# Altium footprint library SIP-4-GBJ.PcbLib: 1 footprints
Each footprint in its own frame and in the unit in brackets; x right, y up, seen from the top. Pads: shape width x height; smd on the part's side, far side on the other; paste and mask are expansions set on the pad; w line width, h text height; cw(c..) or ccw(c..) is an arc to the next point about the centre after c.
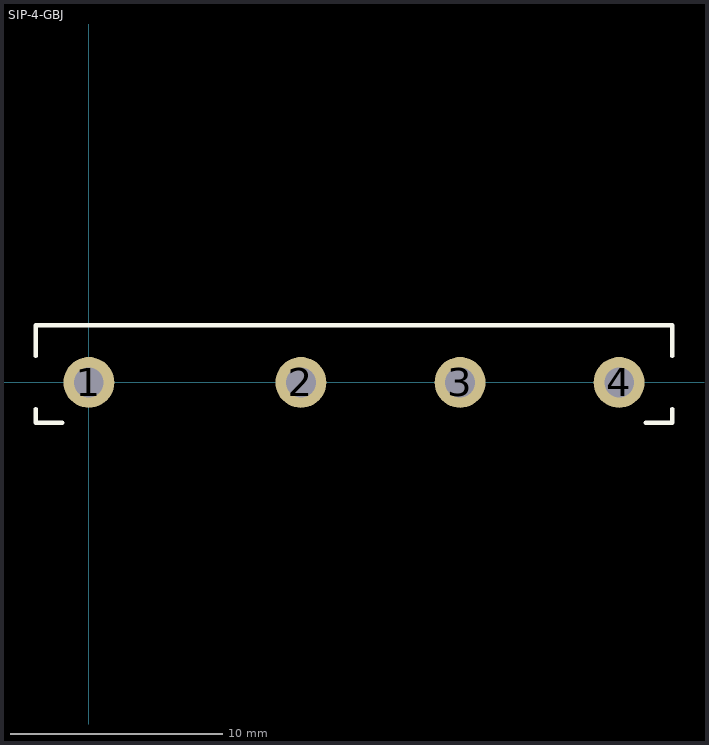
[diagram p0: the footprint, top view; thin cyan lines are the x and y axes]

## SIP-4-GBJ [mm] "4-Pin Single Inline Package, GBJ"
pads (4):
  round 2.4 hole 1.4: 1(0,0) 2(10,0) 3(17.5,0) 4(25,0)
Top Overlay:
  lines w0.2: -2.5,-1.25 -2.5,-1.9 -1.25,-1.9 ; -2.5,1.25 -2.5,2.7 27.5,2.7 27.5,1.25 ; 26.25,-1.9 27.5,-1.9 27.5,-1.25
3D body "GBJ.SLDPRT": height 24, standoff -13.5, extent -2.5,-1.9 27.5,2.7